# EAGLE library part 2-INCH-SPI-SCREEN-RISTRETTO (library Ristretto)
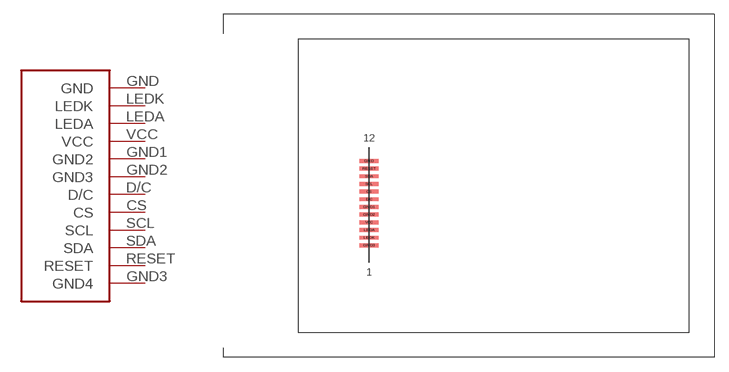
[diagram p0: symbol with the pads of 2-INCH-SPI-SCREEN-RISTRETTO; footprint 2-INCH-SPI-SCREEN-RISTRETTO]

Designator prefix -

## 2-INCH-SPI-SCREEN-RISTRETTO  [2-INCH-SPI-SCREEN-RISTRETTO]
CS  CS
D/C  D/C
GND  GND
GND1  GND2
GND2  GND3
GND3  GND4
LEDA  LEDA
LEDK  LEDK
RESET  RESET
SCL  SCL
SDA  SDA
VCC  VCC

## Footprint 2-INCH-SPI-SCREEN-RISTRETTO (pad centres in mm)
smd 2 x 0.4: CS -13,-0.6; D/C -13,-1.4; GND -13,2.6; GND1 -13,-2.2; GND2 -13,-3; GND3 -13,-6.2; LEDA -13,-4.6; LEDK -13,-5.4; RESET -13,1.8; SCL -13,0.2; SDA -13,1; VCC -13,-3.8